# Altium schematic symbol library DSUBHDVPTMOS15.SchLib: 1 symbol
Pins are listed as number, name and electrical type; pins without a type are passive.

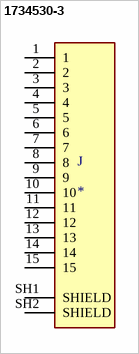
[diagram p0: symbol 1734530-3]

## 1734530-3
designator J
15 Position D-Sub, High Density Receptacle, Female Sockets Connector; Centerline_Pitch: 2.29 mm[.09 in]; MP: 1734530-3; Number_of_Positions: 15; MF: TE Connectivity; TE_purchase_URL: https://www.te.com/usa-en/product-1734530-3.html?te_bu=Cor&te_type=disp&te_campaign=seda_glo_cor-seda-global-disp-prtnr-fy19-seda-model-bom-cta_sma-317_1&elqCampaignId=32493; Availability: Unavailable; SnapEDA_Link: https://www.snapeda.com/parts/1734530-3/TE%20Connectivity%20AMP%20Connectors/view-part/239021/?ref=snap; Value: *; Price: None; Package: None; Product_Type: Connector
footprint CONN_1734530-3
pins: 1, 2, 3, 4, 5, 6, 7, 8, 9, 10, 11, 12, 13, 14, 15, SH1 SHIELD, SH2 SHIELD